# EAGLE library part MOUDLE-WIFI-ESP8266-03(14P-17.3X12.1MM) (library Seeed-OPL-Moudle)
317060012
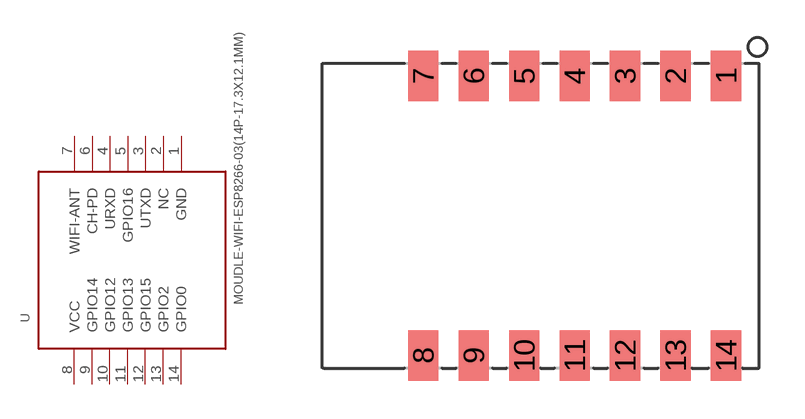
[diagram p10: symbol with the pads of LGA14-2.0-17.3X12.1MM; footprint LGA14-2.0-17.3X12.1MM]

Designator prefix U

## MOUDLE-WIFI-ESP8266-03(14P-17.3X12.1MM) (MPN: ESP8266-ESP-03; VALUE: 14P 17.3X12.1MM)  [LGA14-2.0-17.3X12.1MM]
1  GND
2  NC
3  UTXD
4  URXD
5  GPIO16
6  CH-PD
7  WIFI-ANT
8  VCC
9  GPIO14
10  GPIO12
11  GPIO13
12  GPIO15
13  GPIO2
14  GPIO0

## Footprint LGA14-2.0-17.3X12.1MM (pad centres in mm)
smd 1.2 x 2: 1 7.35,5.55; 2 5.35,5.55; 3 3.35,5.55; 4 1.35,5.55; 5 -0.65,5.55; 6 -2.65,5.55; 7 -4.65,5.55; 8 -4.65,-5.55; 9 -2.65,-5.55; 10 -0.65,-5.55; 11 1.35,-5.55; 12 3.35,-5.55; 13 5.35,-5.55; 14 7.35,-5.55